# Altium footprint library Ceramic QFP (Square).PcbLib: 31 footprints (part 2 of 3)
Each footprint in its own frame and in the unit in brackets; x right, y up, seen from the top. Pads: shape width x height; smd on the part's side, far side on the other; paste and mask are expansions set on the pad; w line width, h text height; cw(c..) or ccw(c..) is an arc to the next point about the centre after c.
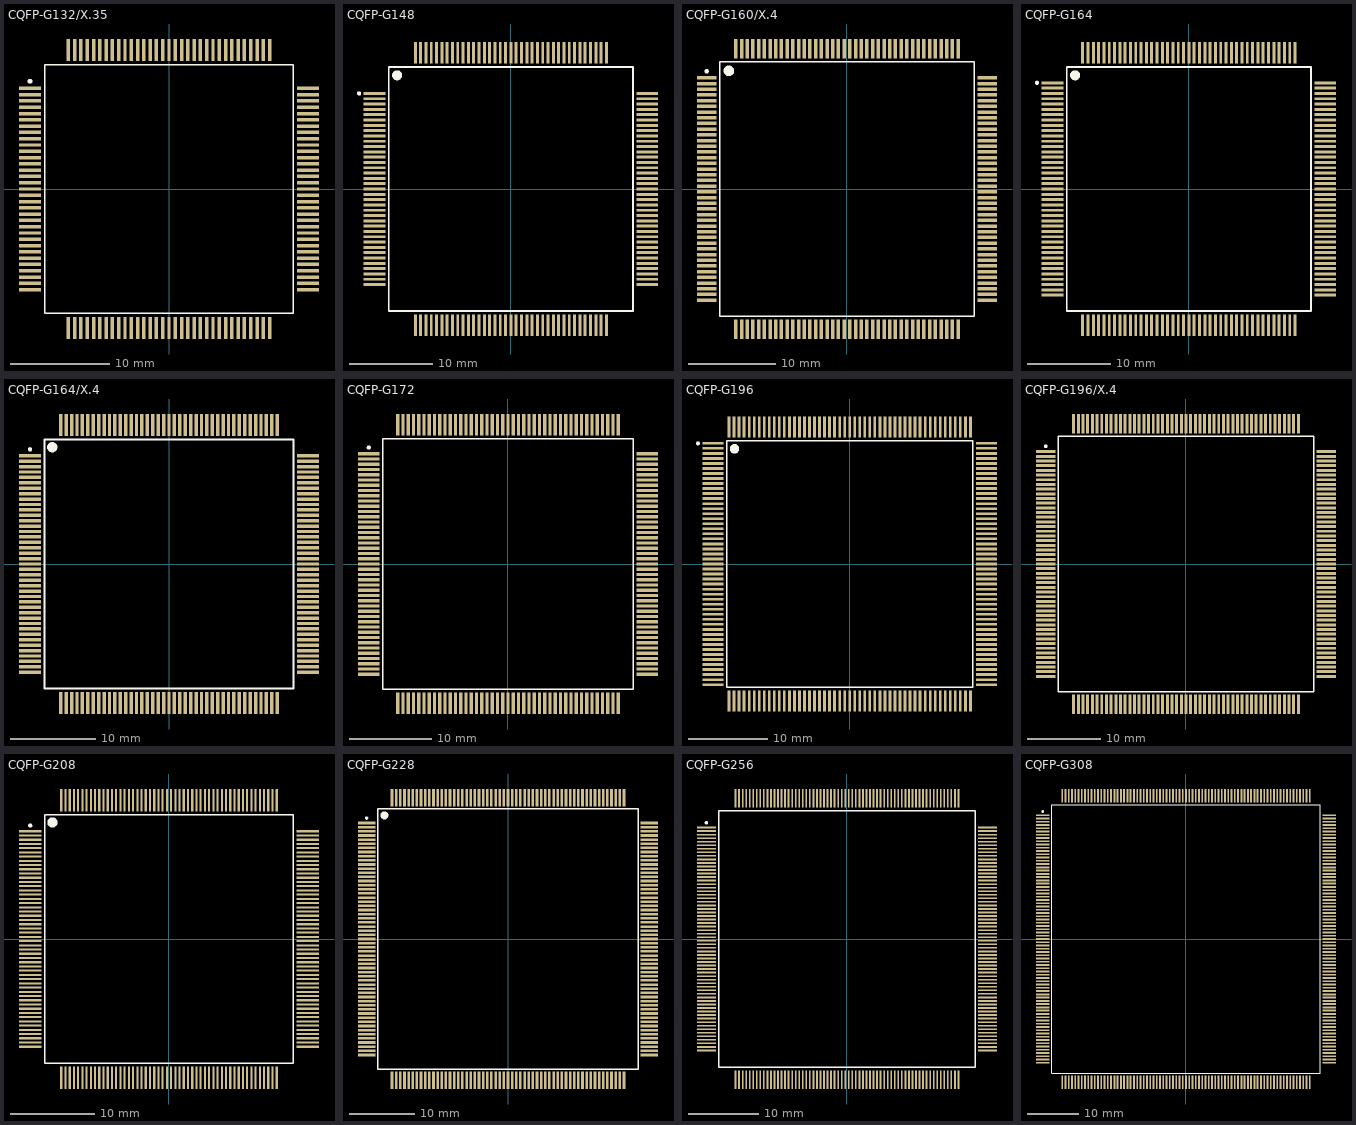
[diagram p1: the footprints below, top view; thin cyan lines are the x and y axes]

## CQFP-G132/X.35 [mm] "132-Pin Ceramic Quad Flat Pack (CQFP)"
height 3
pads (132):
  rect 2.2x0.35 smd: 1(-14.05,10.16) 2(-14.05,9.525) 3(-14.05,8.89) 4(-14.05,8.255) 5(-14.05,7.62) 6(-14.05,6.985) 7(-14.05,6.35) 8(-14.05,5.715) 9(-14.05,5.08) 10(-14.05,4.445) 11(-14.05,3.81) 12(-14.05,3.175) 13(-14.05,2.54) 14(-14.05,1.905) 15(-14.05,1.27) 16(-14.05,0.635) 17(-14.05,0) 18(-14.05,-0.635) 19(-14.05,-1.27) 20(-14.05,-1.905) 21(-14.05,-2.54) 22(-14.05,-3.175) 23(-14.05,-3.81) 24(-14.05,-4.445) 25(-14.05,-5.08) 26(-14.05,-5.715) 27(-14.05,-6.35) 28(-14.05,-6.985) 29(-14.05,-7.62) 30(-14.05,-8.255) 31(-14.05,-8.89) 32(-14.05,-9.525) 33(-14.05,-10.16) 67(14.05,-10.16) 68(14.05,-9.525) 69(14.05,-8.89) 70(14.05,-8.255) 71(14.05,-7.62) 72(14.05,-6.985) 73(14.05,-6.35) 74(14.05,-5.715) 75(14.05,-5.08) 76(14.05,-4.445) 77(14.05,-3.81) 78(14.05,-3.175) 79(14.05,-2.54) 80(14.05,-1.905) 81(14.05,-1.27) 82(14.05,-0.635) 83(14.05,0) 84(14.05,0.635) 85(14.05,1.27) 86(14.05,1.905) 87(14.05,2.54) 88(14.05,3.175) 89(14.05,3.81) 90(14.05,4.445) 91(14.05,5.08) 92(14.05,5.715) 93(14.05,6.35) 94(14.05,6.985) 95(14.05,7.62) 96(14.05,8.255) 97(14.05,8.89) 98(14.05,9.525) 99(14.05,10.16)
  rect 0.35x2.2 smd: 34(-10.16,-14.05) 35(-9.525,-14.05) 36(-8.89,-14.05) 37(-8.255,-14.05) 38(-7.62,-14.05) 39(-6.985,-14.05) 40(-6.35,-14.05) 41(-5.715,-14.05) 42(-5.08,-14.05) 43(-4.445,-14.05) 44(-3.81,-14.05) 45(-3.175,-14.05) 46(-2.54,-14.05) 47(-1.905,-14.05) 48(-1.27,-14.05) 49(-0.635,-14.05) 50(0,-14.05) 51(0.635,-14.05) 52(1.27,-14.05) 53(1.905,-14.05) 54(2.54,-14.05) 55(3.175,-14.05) 56(3.81,-14.05) 57(4.445,-14.05) 58(5.08,-14.05) 59(5.715,-14.05) 60(6.35,-14.05) 61(6.985,-14.05) 62(7.62,-14.05) 63(8.255,-14.05) 64(8.89,-14.05) 65(9.525,-14.05) 66(10.16,-14.05) 100(10.16,14.05) 101(9.525,14.05) 102(8.89,14.05) 103(8.255,14.05) 104(7.62,14.05) 105(6.985,14.05) 106(6.35,14.05) 107(5.715,14.05) 108(5.08,14.05) 109(4.445,14.05) 110(3.81,14.05) 111(3.175,14.05) 112(2.54,14.05) 113(1.905,14.05) 114(1.27,14.05) 115(0.635,14.05) 116(0,14.05) 117(-0.635,14.05) 118(-1.27,14.05) 119(-1.905,14.05) 120(-2.54,14.05) 121(-3.175,14.05) 122(-3.81,14.05) 123(-4.445,14.05) 124(-5.08,14.05) 125(-5.715,14.05) 126(-6.35,14.05) 127(-6.985,14.05) 128(-7.62,14.05) 129(-8.255,14.05) 130(-8.89,14.05) 131(-9.525,14.05) 132(-10.16,14.05)
Top Overlay:
  circle w0.25: c-14.05,10.885 r0.125
  lines w0.2: -12.55,-12.55 -12.55,12.55 12.55,12.55 12.55,-12.55 -12.55,-12.55

## CQFP-G148 [mm] "QFP; 148 Leads; Body 28.5 x 28.5 mm; Pitch 0.635mm"
height 3.1
pads (148):
  rect 2.6x0.35 smd: 1(-16.3,11.43) 2(-16.3,10.795) 3(-16.3,10.16) 4(-16.3,9.525) 5(-16.3,8.89) 6(-16.3,8.255) 7(-16.3,7.62) 8(-16.3,6.985) 9(-16.3,6.35) 10(-16.3,5.715) 11(-16.3,5.08) 12(-16.3,4.445) 13(-16.3,3.81) 14(-16.3,3.175) 15(-16.3,2.54) 16(-16.3,1.905) 17(-16.3,1.27) 18(-16.3,0.635) 19(-16.3,0) 20(-16.3,-0.635) 21(-16.3,-1.27) 22(-16.3,-1.905) 23(-16.3,-2.54) 24(-16.3,-3.175) 25(-16.3,-3.81) 26(-16.3,-4.445) 27(-16.3,-5.08) 28(-16.3,-5.715) 29(-16.3,-6.35) 30(-16.3,-6.985) 31(-16.3,-7.62) 32(-16.3,-8.255) 33(-16.3,-8.89) 34(-16.3,-9.525) 35(-16.3,-10.16) 36(-16.3,-10.795) 37(-16.3,-11.43) 75(16.3,-11.43) 76(16.3,-10.795) 77(16.3,-10.16) 78(16.3,-9.525) 79(16.3,-8.89) 80(16.3,-8.255) 81(16.3,-7.62) 82(16.3,-6.985) 83(16.3,-6.35) 84(16.3,-5.715) 85(16.3,-5.08) 86(16.3,-4.445) 87(16.3,-3.81) 88(16.3,-3.175) 89(16.3,-2.54) 90(16.3,-1.905) 91(16.3,-1.27) 92(16.3,-0.635) 93(16.3,0) 94(16.3,0.635) 95(16.3,1.27) 96(16.3,1.905) 97(16.3,2.54) 98(16.3,3.175) 99(16.3,3.81) 100(16.3,4.445) 101(16.3,5.08) 102(16.3,5.715) 103(16.3,6.35) 104(16.3,6.985) 105(16.3,7.62) 106(16.3,8.255) 107(16.3,8.89) 108(16.3,9.525) 109(16.3,10.16) 110(16.3,10.795) 111(16.3,11.43)
  rect 0.35x2.6 smd: 38(-11.43,-16.3) 39(-10.795,-16.3) 40(-10.16,-16.3) 41(-9.525,-16.3) 42(-8.89,-16.3) 43(-8.255,-16.3) 44(-7.62,-16.3) 45(-6.985,-16.3) 46(-6.35,-16.3) 47(-5.715,-16.3) 48(-5.08,-16.3) 49(-4.445,-16.3) 50(-3.81,-16.3) 51(-3.175,-16.3) 52(-2.54,-16.3) 53(-1.905,-16.3) 54(-1.27,-16.3) 55(-0.635,-16.3) 56(0,-16.3) 57(0.635,-16.3) 58(1.27,-16.3) 59(1.905,-16.3) 60(2.54,-16.3) 61(3.175,-16.3) 62(3.81,-16.3) 63(4.445,-16.3) 64(5.08,-16.3) 65(5.715,-16.3) 66(6.35,-16.3) 67(6.985,-16.3) 68(7.62,-16.3) 69(8.255,-16.3) 70(8.89,-16.3) 71(9.525,-16.3) 72(10.16,-16.3) 73(10.795,-16.3) 74(11.43,-16.3) 112(11.43,16.3) 113(10.795,16.3) 114(10.16,16.3) 115(9.525,16.3) 116(8.89,16.3) 117(8.255,16.3) 118(7.62,16.3) 119(6.985,16.3) 120(6.35,16.3) 121(5.715,16.3) 122(5.08,16.3) 123(4.445,16.3) 124(3.81,16.3) 125(3.175,16.3) 126(2.54,16.3) 127(1.905,16.3) 128(1.27,16.3) 129(0.635,16.3) 130(0,16.3) 131(-0.635,16.3) 132(-1.27,16.3) 133(-1.905,16.3) 134(-2.54,16.3) 135(-3.175,16.3) 136(-3.81,16.3) 137(-4.445,16.3) 138(-5.08,16.3) 139(-5.715,16.3) 140(-6.35,16.3) 141(-6.985,16.3) 142(-7.62,16.3) 143(-8.255,16.3) 144(-8.89,16.3) 145(-9.525,16.3) 146(-10.16,16.3) 147(-10.795,16.3) 148(-11.43,16.3)
Top Overlay:
  circle w0.6: c-13.6,13.6 r0.3
  circle w0.25: c-18.16,11.43 r0.125
  lines w0.2: -14.6,-14.6 -14.6,14.6 14.6,14.6 14.6,-14.6 -14.6,-14.6

## CQFP-G160/X.4 [mm] "QFP, with Molded Carrier Ring; 160 Leads; Body 28 x 28 mm; Pitch 0.65mm"
height 3.4
pads (160):
  rect 2.2x0.4 smd: 1(-16,12.675) 2(-16,12.025) 3(-16,11.375) 4(-16,10.725) 5(-16,10.075) 6(-16,9.425) 7(-16,8.775) 8(-16,8.125) 9(-16,7.475) 10(-16,6.825) 11(-16,6.175) 12(-16,5.525) 13(-16,4.875) 14(-16,4.225) 15(-16,3.575) 16(-16,2.925) 17(-16,2.275) 18(-16,1.625) 19(-16,0.975) 20(-16,0.325) 21(-16,-0.325) 22(-16,-0.975) 23(-16,-1.625) 24(-16,-2.275) 25(-16,-2.925) 26(-16,-3.575) 27(-16,-4.225) 28(-16,-4.875) 29(-16,-5.525) 30(-16,-6.175) 31(-16,-6.825) 32(-16,-7.475) 33(-16,-8.125) 34(-16,-8.775) 35(-16,-9.425) 36(-16,-10.075) 37(-16,-10.725) 38(-16,-11.375) 39(-16,-12.025) 40(-16,-12.675) 81(16,-12.675) 82(16,-12.025) 83(16,-11.375) 84(16,-10.725) 85(16,-10.075) 86(16,-9.425) 87(16,-8.775) 88(16,-8.125) 89(16,-7.475) 90(16,-6.825) 91(16,-6.175) 92(16,-5.525) 93(16,-4.875) 94(16,-4.225) 95(16,-3.575) 96(16,-2.925) 97(16,-2.275) 98(16,-1.625) 99(16,-0.975) 100(16,-0.325) 101(16,0.325) 102(16,0.975) 103(16,1.625) 104(16,2.275) 105(16,2.925) 106(16,3.575) 107(16,4.225) 108(16,4.875) 109(16,5.525) 110(16,6.175) 111(16,6.825) 112(16,7.475) 113(16,8.125) 114(16,8.775) 115(16,9.425) 116(16,10.075) 117(16,10.725) 118(16,11.375) 119(16,12.025) 120(16,12.675)
  rect 0.4x2.2 smd: 41(-12.675,-16) 42(-12.025,-16) 43(-11.375,-16) 44(-10.725,-16) 45(-10.075,-16) 46(-9.425,-16) 47(-8.775,-16) 48(-8.125,-16) 49(-7.475,-16) 50(-6.825,-16) 51(-6.175,-16) 52(-5.525,-16) 53(-4.875,-16) 54(-4.225,-16) 55(-3.575,-16) 56(-2.925,-16) 57(-2.275,-16) 58(-1.625,-16) 59(-0.975,-16) 60(-0.325,-16) 61(0.325,-16) 62(0.975,-16) 63(1.625,-16) 64(2.275,-16) 65(2.925,-16) 66(3.575,-16) 67(4.225,-16) 68(4.875,-16) 69(5.525,-16) 70(6.175,-16) 71(6.825,-16) 72(7.475,-16) 73(8.125,-16) 74(8.775,-16) 75(9.425,-16) 76(10.075,-16) 77(10.725,-16) 78(11.375,-16) 79(12.025,-16) 80(12.675,-16) 121(12.675,16) 122(12.025,16) 123(11.375,16) 124(10.725,16) 125(10.075,16) 126(9.425,16) 127(8.775,16) 128(8.125,16) 129(7.475,16) 130(6.825,16) 131(6.175,16) 132(5.525,16) 133(4.875,16) 134(4.225,16) 135(3.575,16) 136(2.925,16) 137(2.275,16) 138(1.625,16) 139(0.975,16) 140(0.325,16) 141(-0.325,16) 142(-0.975,16) 143(-1.625,16) 144(-2.275,16) 145(-2.925,16) 146(-3.575,16) 147(-4.225,16) 148(-4.875,16) 149(-5.525,16) 150(-6.175,16) 151(-6.825,16) 152(-7.475,16) 153(-8.125,16) 154(-8.775,16) 155(-9.425,16) 156(-10.075,16) 157(-10.725,16) 158(-11.375,16) 159(-12.025,16) 160(-12.675,16)
Top Overlay:
  circle w0.6: c-13.47,13.47 r0.3
  circle w0.25: c-16,13.425 r0.125
  lines w0.2: -14.5,-14.5 -14.5,14.5 14.5,14.5 14.5,-14.5 -14.5,-14.5

## CQFP-G164 [mm] "QFP; 164 Leads; Body 29 x 29 mm; Pitch 0.635mm"
height 3.4
pads (164):
  rect 2.6x0.35 smd: 1(-16.3,12.7) 2(-16.3,12.065) 3(-16.3,11.43) 4(-16.3,10.795) 5(-16.3,10.16) 6(-16.3,9.525) 7(-16.3,8.89) 8(-16.3,8.255) 9(-16.3,7.62) 10(-16.3,6.985) 11(-16.3,6.35) 12(-16.3,5.715) 13(-16.3,5.08) 14(-16.3,4.445) 15(-16.3,3.81) 16(-16.3,3.175) 17(-16.3,2.54) 18(-16.3,1.905) 19(-16.3,1.27) 20(-16.3,0.635) 21(-16.3,0) 22(-16.3,-0.635) 23(-16.3,-1.27) 24(-16.3,-1.905) 25(-16.3,-2.54) 26(-16.3,-3.175) 27(-16.3,-3.81) 28(-16.3,-4.445) 29(-16.3,-5.08) 30(-16.3,-5.715) 31(-16.3,-6.35) 32(-16.3,-6.985) 33(-16.3,-7.62) 34(-16.3,-8.255) 35(-16.3,-8.89) 36(-16.3,-9.525) 37(-16.3,-10.16) 38(-16.3,-10.795) 39(-16.3,-11.43) 40(-16.3,-12.065) 41(-16.3,-12.7) 83(16.3,-12.7) 84(16.3,-12.065) 85(16.3,-11.43) 86(16.3,-10.795) 87(16.3,-10.16) 88(16.3,-9.525) 89(16.3,-8.89) 90(16.3,-8.255) 91(16.3,-7.62) 92(16.3,-6.985) 93(16.3,-6.35) 94(16.3,-5.715) 95(16.3,-5.08) 96(16.3,-4.445) 97(16.3,-3.81) 98(16.3,-3.175) 99(16.3,-2.54) 100(16.3,-1.905) 101(16.3,-1.27) 102(16.3,-0.635) 103(16.3,0) 104(16.3,0.635) 105(16.3,1.27) 106(16.3,1.905) 107(16.3,2.54) 108(16.3,3.175) 109(16.3,3.81) 110(16.3,4.445) 111(16.3,5.08) 112(16.3,5.715) 113(16.3,6.35) 114(16.3,6.985) 115(16.3,7.62) 116(16.3,8.255) 117(16.3,8.89) 118(16.3,9.525) 119(16.3,10.16) 120(16.3,10.795) 121(16.3,11.43) 122(16.3,12.065) 123(16.3,12.7)
  rect 0.35x2.6 smd: 42(-12.7,-16.3) 43(-12.065,-16.3) 44(-11.43,-16.3) 45(-10.795,-16.3) 46(-10.16,-16.3) 47(-9.525,-16.3) 48(-8.89,-16.3) 49(-8.255,-16.3) 50(-7.62,-16.3) 51(-6.985,-16.3) 52(-6.35,-16.3) 53(-5.715,-16.3) 54(-5.08,-16.3) 55(-4.445,-16.3) 56(-3.81,-16.3) 57(-3.175,-16.3) 58(-2.54,-16.3) 59(-1.905,-16.3) 60(-1.27,-16.3) 61(-0.635,-16.3) 62(0,-16.3) 63(0.635,-16.3) 64(1.27,-16.3) 65(1.905,-16.3) 66(2.54,-16.3) 67(3.175,-16.3) 68(3.81,-16.3) 69(4.445,-16.3) 70(5.08,-16.3) 71(5.715,-16.3) 72(6.35,-16.3) 73(6.985,-16.3) 74(7.62,-16.3) 75(8.255,-16.3) 76(8.89,-16.3) 77(9.525,-16.3) 78(10.16,-16.3) 79(10.795,-16.3) 80(11.43,-16.3) 81(12.065,-16.3) 82(12.7,-16.3) 124(12.7,16.3) 125(12.065,16.3) 126(11.43,16.3) 127(10.795,16.3) 128(10.16,16.3) 129(9.525,16.3) 130(8.89,16.3) 131(8.255,16.3) 132(7.62,16.3) 133(6.985,16.3) 134(6.35,16.3) 135(5.715,16.3) 136(5.08,16.3) 137(4.445,16.3) 138(3.81,16.3) 139(3.175,16.3) 140(2.54,16.3) 141(1.905,16.3) 142(1.27,16.3) 143(0.635,16.3) 144(0,16.3) 145(-0.635,16.3) 146(-1.27,16.3) 147(-1.905,16.3) 148(-2.54,16.3) 149(-3.175,16.3) 150(-3.81,16.3) 151(-4.445,16.3) 152(-5.08,16.3) 153(-5.715,16.3) 154(-6.35,16.3) 155(-6.985,16.3) 156(-7.62,16.3) 157(-8.255,16.3) 158(-8.89,16.3) 159(-9.525,16.3) 160(-10.16,16.3) 161(-10.795,16.3) 162(-11.43,16.3) 163(-12.065,16.3) 164(-12.7,16.3)
Top Overlay:
  circle w0.25: c-18.16,12.7 r0.125
  circle w0.6: c-13.6,13.6 r0.3
  lines w0.2: -14.6,-14.6 14.6,-14.6 14.6,14.6 -14.6,14.6 -14.6,-14.6

## CQFP-G164/X.4 [mm] "164-Pin Ceramic Brazed CQFP (CB164)"
height 3.4
pads (164):
  rect 2.6x0.4 smd: 1(-16.3,12.7) 2(-16.3,12.065) 3(-16.3,11.43) 4(-16.3,10.795) 5(-16.3,10.16) 6(-16.3,9.525) 7(-16.3,8.89) 8(-16.3,8.255) 9(-16.3,7.62) 10(-16.3,6.985) 11(-16.3,6.35) 12(-16.3,5.715) 13(-16.3,5.08) 14(-16.3,4.445) 15(-16.3,3.81) 16(-16.3,3.175) 17(-16.3,2.54) 18(-16.3,1.905) 19(-16.3,1.27) 20(-16.3,0.635) 21(-16.3,0) 22(-16.3,-0.635) 23(-16.3,-1.27) 24(-16.3,-1.905) 25(-16.3,-2.54) 26(-16.3,-3.175) 27(-16.3,-3.81) 28(-16.3,-4.445) 29(-16.3,-5.08) 30(-16.3,-5.715) 31(-16.3,-6.35) 32(-16.3,-6.985) 33(-16.3,-7.62) 34(-16.3,-8.255) 35(-16.3,-8.89) 36(-16.3,-9.525) 37(-16.3,-10.16) 38(-16.3,-10.795) 39(-16.3,-11.43) 40(-16.3,-12.065) 41(-16.3,-12.7) 83(16.3,-12.7) 84(16.3,-12.065) 85(16.3,-11.43) 86(16.3,-10.795) 87(16.3,-10.16) 88(16.3,-9.525) 89(16.3,-8.89) 90(16.3,-8.255) 91(16.3,-7.62) 92(16.3,-6.985) 93(16.3,-6.35) 94(16.3,-5.715) 95(16.3,-5.08) 96(16.3,-4.445) 97(16.3,-3.81) 98(16.3,-3.175) 99(16.3,-2.54) 100(16.3,-1.905) 101(16.3,-1.27) 102(16.3,-0.635) 103(16.3,0) 104(16.3,0.635) 105(16.3,1.27) 106(16.3,1.905) 107(16.3,2.54) 108(16.3,3.175) 109(16.3,3.81) 110(16.3,4.445) 111(16.3,5.08) 112(16.3,5.715) 113(16.3,6.35) 114(16.3,6.985) 115(16.3,7.62) 116(16.3,8.255) 117(16.3,8.89) 118(16.3,9.525) 119(16.3,10.16) 120(16.3,10.795) 121(16.3,11.43) 122(16.3,12.065) 123(16.3,12.7)
  rect 0.4x2.6 smd: 42(-12.7,-16.3) 43(-12.065,-16.3) 44(-11.43,-16.3) 45(-10.795,-16.3) 46(-10.16,-16.3) 47(-9.525,-16.3) 48(-8.89,-16.3) 49(-8.255,-16.3) 50(-7.62,-16.3) 51(-6.985,-16.3) 52(-6.35,-16.3) 53(-5.715,-16.3) 54(-5.08,-16.3) 55(-4.445,-16.3) 56(-3.81,-16.3) 57(-3.175,-16.3) 58(-2.54,-16.3) 59(-1.905,-16.3) 60(-1.27,-16.3) 61(-0.635,-16.3) 62(0,-16.3) 63(0.635,-16.3) 64(1.27,-16.3) 65(1.905,-16.3) 66(2.54,-16.3) 67(3.175,-16.3) 68(3.81,-16.3) 69(4.445,-16.3) 70(5.08,-16.3) 71(5.715,-16.3) 72(6.35,-16.3) 73(6.985,-16.3) 74(7.62,-16.3) 75(8.255,-16.3) 76(8.89,-16.3) 77(9.525,-16.3) 78(10.16,-16.3) 79(10.795,-16.3) 80(11.43,-16.3) 81(12.065,-16.3) 82(12.7,-16.3) 124(12.7,16.3) 125(12.065,16.3) 126(11.43,16.3) 127(10.795,16.3) 128(10.16,16.3) 129(9.525,16.3) 130(8.89,16.3) 131(8.255,16.3) 132(7.62,16.3) 133(6.985,16.3) 134(6.35,16.3) 135(5.715,16.3) 136(5.08,16.3) 137(4.445,16.3) 138(3.81,16.3) 139(3.175,16.3) 140(2.54,16.3) 141(1.905,16.3) 142(1.27,16.3) 143(0.635,16.3) 144(0,16.3) 145(-0.635,16.3) 146(-1.27,16.3) 147(-1.905,16.3) 148(-2.54,16.3) 149(-3.175,16.3) 150(-3.81,16.3) 151(-4.445,16.3) 152(-5.08,16.3) 153(-5.715,16.3) 154(-6.35,16.3) 155(-6.985,16.3) 156(-7.62,16.3) 157(-8.255,16.3) 158(-8.89,16.3) 159(-9.525,16.3) 160(-10.16,16.3) 161(-10.795,16.3) 162(-11.43,16.3) 163(-12.065,16.3) 164(-12.7,16.3)
Top Overlay:
  circle w0.25: c-16.3,13.45 r0.125
  circle w0.6: c-13.7,13.7 r0.3
  lines w0.2: -14.6,-14.6 14.6,-14.6 14.6,14.6 -14.6,14.6 -14.6,-14.6

## CQFP-G172 [mm] "172-Pin Ceramic Quad Flat Pack (CQFP)"
height 3
pads (172):
  rect 2.6x0.4 smd: 1(-16.85,13.335) 2(-16.85,12.7) 3(-16.85,12.065) 4(-16.85,11.43) 5(-16.85,10.795) 6(-16.85,10.16) 7(-16.85,9.525) 8(-16.85,8.89) 9(-16.85,8.255) 10(-16.85,7.62) 11(-16.85,6.985) 12(-16.85,6.35) 13(-16.85,5.715) 14(-16.85,5.08) 15(-16.85,4.445) 16(-16.85,3.81) 17(-16.85,3.175) 18(-16.85,2.54) 19(-16.85,1.905) 20(-16.85,1.27) 21(-16.85,0.635) 22(-16.85,0) 23(-16.85,-0.635) 24(-16.85,-1.27) 25(-16.85,-1.905) 26(-16.85,-2.54) 27(-16.85,-3.175) 28(-16.85,-3.81) 29(-16.85,-4.445) 30(-16.85,-5.08) 31(-16.85,-5.715) 32(-16.85,-6.35) 33(-16.85,-6.985) 34(-16.85,-7.62) 35(-16.85,-8.255) 36(-16.85,-8.89) 37(-16.85,-9.525) 38(-16.85,-10.16) 39(-16.85,-10.795) 40(-16.85,-11.43) 41(-16.85,-12.065) 42(-16.85,-12.7) 43(-16.85,-13.335) 87(16.85,-13.335) 88(16.85,-12.7) 89(16.85,-12.065) 90(16.85,-11.43) 91(16.85,-10.795) 92(16.85,-10.16) 93(16.85,-9.525) 94(16.85,-8.89) 95(16.85,-8.255) 96(16.85,-7.62) 97(16.85,-6.985) 98(16.85,-6.35) 99(16.85,-5.715) 100(16.85,-5.08) 101(16.85,-4.445) 102(16.85,-3.81) 103(16.85,-3.175) 104(16.85,-2.54) 105(16.85,-1.905) 106(16.85,-1.27) 107(16.85,-0.635) 108(16.85,0) 109(16.85,0.635) 110(16.85,1.27) 111(16.85,1.905) 112(16.85,2.54) 113(16.85,3.175) 114(16.85,3.81) 115(16.85,4.445) 116(16.85,5.08) 117(16.85,5.715) 118(16.85,6.35) 119(16.85,6.985) 120(16.85,7.62) 121(16.85,8.255) 122(16.85,8.89) 123(16.85,9.525) 124(16.85,10.16) 125(16.85,10.795) 126(16.85,11.43) 127(16.85,12.065) 128(16.85,12.7) 129(16.85,13.335)
  rect 0.4x2.6 smd: 44(-13.335,-16.85) 45(-12.7,-16.85) 46(-12.065,-16.85) 47(-11.43,-16.85) 48(-10.795,-16.85) 49(-10.16,-16.85) 50(-9.525,-16.85) 51(-8.89,-16.85) 52(-8.255,-16.85) 53(-7.62,-16.85) 54(-6.985,-16.85) 55(-6.35,-16.85) 56(-5.715,-16.85) 57(-5.08,-16.85) 58(-4.445,-16.85) 59(-3.81,-16.85) 60(-3.175,-16.85) 61(-2.54,-16.85) 62(-1.905,-16.85) 63(-1.27,-16.85) 64(-0.635,-16.85) 65(0,-16.85) 66(0.635,-16.85) 67(1.27,-16.85) 68(1.905,-16.85) 69(2.54,-16.85) 70(3.175,-16.85) 71(3.81,-16.85) 72(4.445,-16.85) 73(5.08,-16.85) 74(5.715,-16.85) 75(6.35,-16.85) 76(6.985,-16.85) 77(7.62,-16.85) 78(8.255,-16.85) 79(8.89,-16.85) 80(9.525,-16.85) 81(10.16,-16.85) 82(10.795,-16.85) 83(11.43,-16.85) 84(12.065,-16.85) 85(12.7,-16.85) 86(13.335,-16.85) 130(13.335,16.85) 131(12.7,16.85) 132(12.065,16.85) 133(11.43,16.85) 134(10.795,16.85) 135(10.16,16.85) 136(9.525,16.85) 137(8.89,16.85) 138(8.255,16.85) 139(7.62,16.85) 140(6.985,16.85) 141(6.35,16.85) 142(5.715,16.85) 143(5.08,16.85) 144(4.445,16.85) 145(3.81,16.85) 146(3.175,16.85) 147(2.54,16.85) 148(1.905,16.85) 149(1.27,16.85) 150(0.635,16.85) 151(0,16.85) 152(-0.635,16.85) 153(-1.27,16.85) 154(-1.905,16.85) 155(-2.54,16.85) 156(-3.175,16.85) 157(-3.81,16.85) 158(-4.445,16.85) 159(-5.08,16.85) 160(-5.715,16.85) 161(-6.35,16.85) 162(-6.985,16.85) 163(-7.62,16.85) 164(-8.255,16.85) 165(-8.89,16.85) 166(-9.525,16.85) 167(-10.16,16.85) 168(-10.795,16.85) 169(-11.43,16.85) 170(-12.065,16.85) 171(-12.7,16.85) 172(-13.335,16.85)
Top Overlay:
  circle w0.25: c-16.85,14.085 r0.125
  lines w0.2: -15.15,-15.15 -15.15,15.15 15.15,15.15 15.15,-15.15 -15.15,-15.15

## CQFP-G196 [mm] "QFP; 196 Leads; Body 34 x 34 mm; Pitch 0.635mm"
height 3.5
pads (196):
  rect 2.65x0.35 smd: 1(-17.275,15.24) 2(-17.275,14.605) 3(-17.275,13.97) 4(-17.275,13.335) 5(-17.275,12.7) 6(-17.275,12.065) 7(-17.275,11.43) 8(-17.275,10.795) 9(-17.275,10.16) 10(-17.275,9.525) 11(-17.275,8.89) 12(-17.275,8.255) 13(-17.275,7.62) 14(-17.275,6.985) 15(-17.275,6.35) 16(-17.275,5.715) 17(-17.275,5.08) 18(-17.275,4.445) 19(-17.275,3.81) 20(-17.275,3.175) 21(-17.275,2.54) 22(-17.275,1.905) 23(-17.275,1.27) 24(-17.275,0.635) 25(-17.275,0) 26(-17.275,-0.635) 27(-17.275,-1.27) 28(-17.275,-1.905) 29(-17.275,-2.54) 30(-17.275,-3.175) 31(-17.275,-3.81) 32(-17.275,-4.445) 33(-17.275,-5.08) 34(-17.275,-5.715) 35(-17.275,-6.35) 36(-17.275,-6.985) 37(-17.275,-7.62) 38(-17.275,-8.255) 39(-17.275,-8.89) 40(-17.275,-9.525) 41(-17.275,-10.16) 42(-17.275,-10.795) 43(-17.275,-11.43) 44(-17.275,-12.065) 45(-17.275,-12.7) 46(-17.275,-13.335) 47(-17.275,-13.97) 48(-17.275,-14.605) 49(-17.275,-15.24) 99(17.275,-15.24) 100(17.275,-14.605) 101(17.275,-13.97) 102(17.275,-13.335) 103(17.275,-12.7) 104(17.275,-12.065) 105(17.275,-11.43) 106(17.275,-10.795) 107(17.275,-10.16) 108(17.275,-9.525) 109(17.275,-8.89) 110(17.275,-8.255) 111(17.275,-7.62) 112(17.275,-6.985) 113(17.275,-6.35) 114(17.275,-5.715) 115(17.275,-5.08) 116(17.275,-4.445) 117(17.275,-3.81) 118(17.275,-3.175) 119(17.275,-2.54) 120(17.275,-1.905) 121(17.275,-1.27) 122(17.275,-0.635) 123(17.275,0) 124(17.275,0.635) 125(17.275,1.27) 126(17.275,1.905) 127(17.275,2.54) 128(17.275,3.175) 129(17.275,3.81) 130(17.275,4.445) 131(17.275,5.08) 132(17.275,5.715) 133(17.275,6.35) 134(17.275,6.985) 135(17.275,7.62) 136(17.275,8.255) 137(17.275,8.89) 138(17.275,9.525) 139(17.275,10.16) 140(17.275,10.795) 141(17.275,11.43) 142(17.275,12.065) 143(17.275,12.7) 144(17.275,13.335) 145(17.275,13.97) 146(17.275,14.605) 147(17.275,15.24)
  rect 0.35x2.65 smd: 50(-15.24,-17.275) 51(-14.605,-17.275) 52(-13.97,-17.275) 53(-13.335,-17.275) 54(-12.7,-17.275) 55(-12.065,-17.275) 56(-11.43,-17.275) 57(-10.795,-17.275) 58(-10.16,-17.275) 59(-9.525,-17.275) 60(-8.89,-17.275) 61(-8.255,-17.275) 62(-7.62,-17.275) 63(-6.985,-17.275) 64(-6.35,-17.275) 65(-5.715,-17.275) 66(-5.08,-17.275) 67(-4.445,-17.275) 68(-3.81,-17.275) 69(-3.175,-17.275) 70(-2.54,-17.275) 71(-1.905,-17.275) 72(-1.27,-17.275) 73(-0.635,-17.275) 74(0,-17.275) 75(0.635,-17.275) 76(1.27,-17.275) 77(1.905,-17.275) 78(2.54,-17.275) 79(3.175,-17.275) 80(3.81,-17.275) 81(4.445,-17.275) 82(5.08,-17.275) 83(5.715,-17.275) 84(6.35,-17.275) 85(6.985,-17.275) 86(7.62,-17.275) 87(8.255,-17.275) 88(8.89,-17.275) 89(9.525,-17.275) 90(10.16,-17.275) 91(10.795,-17.275) 92(11.43,-17.275) 93(12.065,-17.275) 94(12.7,-17.275) 95(13.335,-17.275) 96(13.97,-17.275) 97(14.605,-17.275) 98(15.24,-17.275) 148(15.24,17.275) 149(14.605,17.275) 150(13.97,17.275) 151(13.335,17.275) 152(12.7,17.275) 153(12.065,17.275) 154(11.43,17.275) 155(10.795,17.275) 156(10.16,17.275) 157(9.525,17.275) 158(8.89,17.275) 159(8.255,17.275) 160(7.62,17.275) 161(6.985,17.275) 162(6.35,17.275) 163(5.715,17.275) 164(5.08,17.275) 165(4.445,17.275) 166(3.81,17.275) 167(3.175,17.275) 168(2.54,17.275) 169(1.905,17.275) 170(1.27,17.275) 171(0.635,17.275) 172(0,17.275) 173(-0.635,17.275) 174(-1.27,17.275) 175(-1.905,17.275) 176(-2.54,17.275) 177(-3.175,17.275) 178(-3.81,17.275) 179(-4.445,17.275) 180(-5.08,17.275) 181(-5.715,17.275) 182(-6.35,17.275) 183(-6.985,17.275) 184(-7.62,17.275) 185(-8.255,17.275) 186(-8.89,17.275) 187(-9.525,17.275) 188(-10.16,17.275) 189(-10.795,17.275) 190(-11.43,17.275) 191(-12.065,17.275) 192(-12.7,17.275) 193(-13.335,17.275) 194(-13.97,17.275) 195(-14.605,17.275) 196(-15.24,17.275)
Top Overlay:
  circle w0.25: c-19.16,15.24 r0.125
  circle w0.6: c-14.55,14.55 r0.3
  lines w0.2: -15.55,-15.55 15.55,-15.55 15.55,15.55 -15.55,15.55 -15.55,-15.55

## CQFP-G196/X.4 [mm] "196-Pin Ceramic Quad Flat Pack (CQFP)"
height 2.7
pads (196):
  rect 2.65x0.4 smd: 1(-19.025,15.24) 2(-19.025,14.605) 3(-19.025,13.97) 4(-19.025,13.335) 5(-19.025,12.7) 6(-19.025,12.065) 7(-19.025,11.43) 8(-19.025,10.795) 9(-19.025,10.16) 10(-19.025,9.525) 11(-19.025,8.89) 12(-19.025,8.255) 13(-19.025,7.62) 14(-19.025,6.985) 15(-19.025,6.35) 16(-19.025,5.715) 17(-19.025,5.08) 18(-19.025,4.445) 19(-19.025,3.81) 20(-19.025,3.175) 21(-19.025,2.54) 22(-19.025,1.905) 23(-19.025,1.27) 24(-19.025,0.635) 25(-19.025,0) 26(-19.025,-0.635) 27(-19.025,-1.27) 28(-19.025,-1.905) 29(-19.025,-2.54) 30(-19.025,-3.175) 31(-19.025,-3.81) 32(-19.025,-4.445) 33(-19.025,-5.08) 34(-19.025,-5.715) 35(-19.025,-6.35) 36(-19.025,-6.985) 37(-19.025,-7.62) 38(-19.025,-8.255) 39(-19.025,-8.89) 40(-19.025,-9.525) 41(-19.025,-10.16) 42(-19.025,-10.795) 43(-19.025,-11.43) 44(-19.025,-12.065) 45(-19.025,-12.7) 46(-19.025,-13.335) 47(-19.025,-13.97) 48(-19.025,-14.605) 49(-19.025,-15.24) 99(19.025,-15.24) 100(19.025,-14.605) 101(19.025,-13.97) 102(19.025,-13.335) 103(19.025,-12.7) 104(19.025,-12.065) 105(19.025,-11.43) 106(19.025,-10.795) 107(19.025,-10.16) 108(19.025,-9.525) 109(19.025,-8.89) 110(19.025,-8.255) 111(19.025,-7.62) 112(19.025,-6.985) 113(19.025,-6.35) 114(19.025,-5.715) 115(19.025,-5.08) 116(19.025,-4.445) 117(19.025,-3.81) 118(19.025,-3.175) 119(19.025,-2.54) 120(19.025,-1.905) 121(19.025,-1.27) 122(19.025,-0.635) 123(19.025,0) 124(19.025,0.635) 125(19.025,1.27) 126(19.025,1.905) 127(19.025,2.54) 128(19.025,3.175) 129(19.025,3.81) 130(19.025,4.445) 131(19.025,5.08) 132(19.025,5.715) 133(19.025,6.35) 134(19.025,6.985) 135(19.025,7.62) 136(19.025,8.255) 137(19.025,8.89) 138(19.025,9.525) 139(19.025,10.16) 140(19.025,10.795) 141(19.025,11.43) 142(19.025,12.065) 143(19.025,12.7) 144(19.025,13.335) 145(19.025,13.97) 146(19.025,14.605) 147(19.025,15.24)
  rect 0.4x2.65 smd: 50(-15.24,-19.025) 51(-14.605,-19.025) 52(-13.97,-19.025) 53(-13.335,-19.025) 54(-12.7,-19.025) 55(-12.065,-19.025) 56(-11.43,-19.025) 57(-10.795,-19.025) 58(-10.16,-19.025) 59(-9.525,-19.025) 60(-8.89,-19.025) 61(-8.255,-19.025) 62(-7.62,-19.025) 63(-6.985,-19.025) 64(-6.35,-19.025) 65(-5.715,-19.025) 66(-5.08,-19.025) 67(-4.445,-19.025) 68(-3.81,-19.025) 69(-3.175,-19.025) 70(-2.54,-19.025) 71(-1.905,-19.025) 72(-1.27,-19.025) 73(-0.635,-19.025) 74(0,-19.025) 75(0.635,-19.025) 76(1.27,-19.025) 77(1.905,-19.025) 78(2.54,-19.025) 79(3.175,-19.025) 80(3.81,-19.025) 81(4.445,-19.025) 82(5.08,-19.025) 83(5.715,-19.025) 84(6.35,-19.025) 85(6.985,-19.025) 86(7.62,-19.025) 87(8.255,-19.025) 88(8.89,-19.025) 89(9.525,-19.025) 90(10.16,-19.025) 91(10.795,-19.025) 92(11.43,-19.025) 93(12.065,-19.025) 94(12.7,-19.025) 95(13.335,-19.025) 96(13.97,-19.025) 97(14.605,-19.025) 98(15.24,-19.025) 148(15.24,19.025) 149(14.605,19.025) 150(13.97,19.025) 151(13.335,19.025) 152(12.7,19.025) 153(12.065,19.025) 154(11.43,19.025) 155(10.795,19.025) 156(10.16,19.025) 157(9.525,19.025) 158(8.89,19.025) 159(8.255,19.025) 160(7.62,19.025) 161(6.985,19.025) 162(6.35,19.025) 163(5.715,19.025) 164(5.08,19.025) 165(4.445,19.025) 166(3.81,19.025) 167(3.175,19.025) 168(2.54,19.025) 169(1.905,19.025) 170(1.27,19.025) 171(0.635,19.025) 172(0,19.025) 173(-0.635,19.025) 174(-1.27,19.025) 175(-1.905,19.025) 176(-2.54,19.025) 177(-3.175,19.025) 178(-3.81,19.025) 179(-4.445,19.025) 180(-5.08,19.025) 181(-5.715,19.025) 182(-6.35,19.025) 183(-6.985,19.025) 184(-7.62,19.025) 185(-8.255,19.025) 186(-8.89,19.025) 187(-9.525,19.025) 188(-10.16,19.025) 189(-10.795,19.025) 190(-11.43,19.025) 191(-12.065,19.025) 192(-12.7,19.025) 193(-13.335,19.025) 194(-13.97,19.025) 195(-14.605,19.025) 196(-15.24,19.025)
Top Overlay:
  circle w0.25: c-19.025,15.965 r0.125
  lines w0.2: -17.3,-17.3 -17.3,17.3 17.3,17.3 17.3,-17.3 -17.3,-17.3

## CQFP-G208 [mm] "208-Pin Ceramic Quad Flat Pack (CQFP)"
height 3.3
pads (208):
  rect 2.65x0.25 smd: 1(-16.425,12.75) 2(-16.425,12.25) 3(-16.425,11.75) 4(-16.425,11.25) 5(-16.425,10.75) 6(-16.425,10.25) 7(-16.425,9.75) 8(-16.425,9.25) 9(-16.425,8.75) 10(-16.425,8.25) 11(-16.425,7.75) 12(-16.425,7.25) 13(-16.425,6.75) 14(-16.425,6.25) 15(-16.425,5.75) 16(-16.425,5.25) 17(-16.425,4.75) 18(-16.425,4.25) 19(-16.425,3.75) 20(-16.425,3.25) 21(-16.425,2.75) 22(-16.425,2.25) 23(-16.425,1.75) 24(-16.425,1.25) 25(-16.425,0.75) 26(-16.425,0.25) 27(-16.425,-0.25) 28(-16.425,-0.75) 29(-16.425,-1.25) 30(-16.425,-1.75) 31(-16.425,-2.25) 32(-16.425,-2.75) 33(-16.425,-3.25) 34(-16.425,-3.75) 35(-16.425,-4.25) 36(-16.425,-4.75) 37(-16.425,-5.25) 38(-16.425,-5.75) 39(-16.425,-6.25) 40(-16.425,-6.75) 41(-16.425,-7.25) 42(-16.425,-7.75) 43(-16.425,-8.25) 44(-16.425,-8.75) 45(-16.425,-9.25) 46(-16.425,-9.75) 47(-16.425,-10.25) 48(-16.425,-10.75) 49(-16.425,-11.25) 50(-16.425,-11.75) 51(-16.425,-12.25) 52(-16.425,-12.75) 105(16.425,-12.75) 106(16.425,-12.25) 107(16.425,-11.75) 108(16.425,-11.25) 109(16.425,-10.75) 110(16.425,-10.25) 111(16.425,-9.75) 112(16.425,-9.25) 113(16.425,-8.75) 114(16.425,-8.25) 115(16.425,-7.75) 116(16.425,-7.25) 117(16.425,-6.75) 118(16.425,-6.25) 119(16.425,-5.75) 120(16.425,-5.25) 121(16.425,-4.75) 122(16.425,-4.25) 123(16.425,-3.75) 124(16.425,-3.25) 125(16.425,-2.75) 126(16.425,-2.25) 127(16.425,-1.75) 128(16.425,-1.25) 129(16.425,-0.75) 130(16.425,-0.25) 131(16.425,0.25) 132(16.425,0.75) 133(16.425,1.25) 134(16.425,1.75) 135(16.425,2.25) 136(16.425,2.75) 137(16.425,3.25) 138(16.425,3.75) 139(16.425,4.25) 140(16.425,4.75) 141(16.425,5.25) 142(16.425,5.75) 143(16.425,6.25) 144(16.425,6.75) 145(16.425,7.25) 146(16.425,7.75) 147(16.425,8.25) 148(16.425,8.75) 149(16.425,9.25) 150(16.425,9.75) 151(16.425,10.25) 152(16.425,10.75) 153(16.425,11.25) 154(16.425,11.75) 155(16.425,12.25) 156(16.425,12.75)
  rect 0.25x2.65 smd: 53(-12.75,-16.425) 54(-12.25,-16.425) 55(-11.75,-16.425) 56(-11.25,-16.425) 57(-10.75,-16.425) 58(-10.25,-16.425) 59(-9.75,-16.425) 60(-9.25,-16.425) 61(-8.75,-16.425) 62(-8.25,-16.425) 63(-7.75,-16.425) 64(-7.25,-16.425) 65(-6.75,-16.425) 66(-6.25,-16.425) 67(-5.75,-16.425) 68(-5.25,-16.425) 69(-4.75,-16.425) 70(-4.25,-16.425) 71(-3.75,-16.425) 72(-3.25,-16.425) 73(-2.75,-16.425) 74(-2.25,-16.425) 75(-1.75,-16.425) 76(-1.25,-16.425) 77(-0.75,-16.425) 78(-0.25,-16.425) 79(0.25,-16.425) 80(0.75,-16.425) 81(1.25,-16.425) 82(1.75,-16.425) 83(2.25,-16.425) 84(2.75,-16.425) 85(3.25,-16.425) 86(3.75,-16.425) 87(4.25,-16.425) 88(4.75,-16.425) 89(5.25,-16.425) 90(5.75,-16.425) 91(6.25,-16.425) 92(6.75,-16.425) 93(7.25,-16.425) 94(7.75,-16.425) 95(8.25,-16.425) 96(8.75,-16.425) 97(9.25,-16.425) 98(9.75,-16.425) 99(10.25,-16.425) 100(10.75,-16.425) 101(11.25,-16.425) 102(11.75,-16.425) 103(12.25,-16.425) 104(12.75,-16.425) 157(12.75,16.425) 158(12.25,16.425) 159(11.75,16.425) 160(11.25,16.425) 161(10.75,16.425) 162(10.25,16.425) 163(9.75,16.425) 164(9.25,16.425) 165(8.75,16.425) 166(8.25,16.425) 167(7.75,16.425) 168(7.25,16.425) 169(6.75,16.425) 170(6.25,16.425) 171(5.75,16.425) 172(5.25,16.425) 173(4.75,16.425) 174(4.25,16.425) 175(3.75,16.425) 176(3.25,16.425) 177(2.75,16.425) 178(2.25,16.425) 179(1.75,16.425) 180(1.25,16.425) 181(0.75,16.425) 182(0.25,16.425) 183(-0.25,16.425) 184(-0.75,16.425) 185(-1.25,16.425) 186(-1.75,16.425) 187(-2.25,16.425) 188(-2.75,16.425) 189(-3.25,16.425) 190(-3.75,16.425) 191(-4.25,16.425) 192(-4.75,16.425) 193(-5.25,16.425) 194(-5.75,16.425) 195(-6.25,16.425) 196(-6.75,16.425) 197(-7.25,16.425) 198(-7.75,16.425) 199(-8.25,16.425) 200(-8.75,16.425) 201(-9.25,16.425) 202(-9.75,16.425) 203(-10.25,16.425) 204(-10.75,16.425) 205(-11.25,16.425) 206(-11.75,16.425) 207(-12.25,16.425) 208(-12.75,16.425)
Top Overlay:
  circle w0.25: c-16.425,13.425 r0.125
  circle w0.6: c-13.8,13.8 r0.3
  lines w0.2: -14.7,-14.7 14.7,-14.7 14.7,14.7 -14.7,14.7 -14.7,-14.7

## CQFP-G228 [mm] "228-Pin Ceramic Brazed CQFP (CB228)"
height 3.4
pads (228):
  rect 2.65x0.4 smd: 1(-21.675,17.78) 2(-21.675,17.145) 3(-21.675,16.51) 4(-21.675,15.875) 5(-21.675,15.24) 6(-21.675,14.605) 7(-21.675,13.97) 8(-21.675,13.335) 9(-21.675,12.7) 10(-21.675,12.065) 11(-21.675,11.43) 12(-21.675,10.795) 13(-21.675,10.16) 14(-21.675,9.525) 15(-21.675,8.89) 16(-21.675,8.255) 17(-21.675,7.62) 18(-21.675,6.985) 19(-21.675,6.35) 20(-21.675,5.715) 21(-21.675,5.08) 22(-21.675,4.445) 23(-21.675,3.81) 24(-21.675,3.175) 25(-21.675,2.54) 26(-21.675,1.905) 27(-21.675,1.27) 28(-21.675,0.635) 29(-21.675,0) 30(-21.675,-0.635) 31(-21.675,-1.27) 32(-21.675,-1.905) 33(-21.675,-2.54) 34(-21.675,-3.175) 35(-21.675,-3.81) 36(-21.675,-4.445) 37(-21.675,-5.08) 38(-21.675,-5.715) 39(-21.675,-6.35) 40(-21.675,-6.985) 41(-21.675,-7.62) 42(-21.675,-8.255) 43(-21.675,-8.89) 44(-21.675,-9.525) 45(-21.675,-10.16) 46(-21.675,-10.795) 47(-21.675,-11.43) 48(-21.675,-12.065) 49(-21.675,-12.7) 50(-21.675,-13.335) 51(-21.675,-13.97) 52(-21.675,-14.605) 53(-21.675,-15.24) 54(-21.675,-15.875) 55(-21.675,-16.51) 56(-21.675,-17.145) 57(-21.675,-17.78) 115(21.675,-17.78) 116(21.675,-17.145) 117(21.675,-16.51) 118(21.675,-15.875) 119(21.675,-15.24) 120(21.675,-14.605) 121(21.675,-13.97) 122(21.675,-13.335) 123(21.675,-12.7) 124(21.675,-12.065) 125(21.675,-11.43) 126(21.675,-10.795) 127(21.675,-10.16) 128(21.675,-9.525) 129(21.675,-8.89) 130(21.675,-8.255) 131(21.675,-7.62) 132(21.675,-6.985) 133(21.675,-6.35) 134(21.675,-5.715) 135(21.675,-5.08) 136(21.675,-4.445) 137(21.675,-3.81) 138(21.675,-3.175) 139(21.675,-2.54) 140(21.675,-1.905) 141(21.675,-1.27) 142(21.675,-0.635) 143(21.675,0) 144(21.675,0.635) 145(21.675,1.27) 146(21.675,1.905) 147(21.675,2.54) 148(21.675,3.175) 149(21.675,3.81) 150(21.675,4.445) 151(21.675,5.08) 152(21.675,5.715) 153(21.675,6.35) 154(21.675,6.985) 155(21.675,7.62) 156(21.675,8.255) 157(21.675,8.89) 158(21.675,9.525) 159(21.675,10.16) 160(21.675,10.795) 161(21.675,11.43) 162(21.675,12.065) 163(21.675,12.7) 164(21.675,13.335) 165(21.675,13.97) 166(21.675,14.605) 167(21.675,15.24) 168(21.675,15.875) 169(21.675,16.51) 170(21.675,17.145) 171(21.675,17.78)
  rect 0.4x2.65 smd: 58(-17.78,-21.675) 59(-17.145,-21.675) 60(-16.51,-21.675) 61(-15.875,-21.675) 62(-15.24,-21.675) 63(-14.605,-21.675) 64(-13.97,-21.675) 65(-13.335,-21.675) 66(-12.7,-21.675) 67(-12.065,-21.675) 68(-11.43,-21.675) 69(-10.795,-21.675) 70(-10.16,-21.675) 71(-9.525,-21.675) 72(-8.89,-21.675) 73(-8.255,-21.675) 74(-7.62,-21.675) 75(-6.985,-21.675) 76(-6.35,-21.675) 77(-5.715,-21.675) 78(-5.08,-21.675) 79(-4.445,-21.675) 80(-3.81,-21.675) 81(-3.175,-21.675) 82(-2.54,-21.675) 83(-1.905,-21.675) 84(-1.27,-21.675) 85(-0.635,-21.675) 86(0,-21.675) 87(0.635,-21.675) 88(1.27,-21.675) 89(1.905,-21.675) 90(2.54,-21.675) 91(3.175,-21.675) 92(3.81,-21.675) 93(4.445,-21.675) 94(5.08,-21.675) 95(5.715,-21.675) 96(6.35,-21.675) 97(6.985,-21.675) 98(7.62,-21.675) 99(8.255,-21.675) 100(8.89,-21.675) 101(9.525,-21.675) 102(10.16,-21.675) 103(10.795,-21.675) 104(11.43,-21.675) 105(12.065,-21.675) 106(12.7,-21.675) 107(13.335,-21.675) 108(13.97,-21.675) 109(14.605,-21.675) 110(15.24,-21.675) 111(15.875,-21.675) 112(16.51,-21.675) 113(17.145,-21.675) 114(17.78,-21.675) 172(17.78,21.675) 173(17.145,21.675) 174(16.51,21.675) 175(15.875,21.675) 176(15.24,21.675) 177(14.605,21.675) 178(13.97,21.675) 179(13.335,21.675) 180(12.7,21.675) 181(12.065,21.675) 182(11.43,21.675) 183(10.795,21.675) 184(10.16,21.675) 185(9.525,21.675) 186(8.89,21.675) 187(8.255,21.675) 188(7.62,21.675) 189(6.985,21.675) 190(6.35,21.675) 191(5.715,21.675) 192(5.08,21.675) 193(4.445,21.675) 194(3.81,21.675) 195(3.175,21.675) 196(2.54,21.675) 197(1.905,21.675) 198(1.27,21.675) 199(0.635,21.675) 200(0,21.675) 201(-0.635,21.675) 202(-1.27,21.675) 203(-1.905,21.675) 204(-2.54,21.675) 205(-3.175,21.675) 206(-3.81,21.675) 207(-4.445,21.675) 208(-5.08,21.675) 209(-5.715,21.675) 210(-6.35,21.675) 211(-6.985,21.675) 212(-7.62,21.675) 213(-8.255,21.675) 214(-8.89,21.675) 215(-9.525,21.675) 216(-10.16,21.675) 217(-10.795,21.675) 218(-11.43,21.675) 219(-12.065,21.675) 220(-12.7,21.675) 221(-13.335,21.675) 222(-13.97,21.675) 223(-14.605,21.675) 224(-15.24,21.675) 225(-15.875,21.675) 226(-16.51,21.675) 227(-17.145,21.675) 228(-17.78,21.675)
Top Overlay:
  circle w0.6: c-18.95,18.95 r0.3
  circle w0.25: c-21.675,18.53 r0.125
  lines w0.2: -19.95,-19.95 -19.95,19.95 19.95,19.95 19.95,-19.95 -19.95,-19.95

## CQFP-G256 [mm] "256-Pin Ceramic Quad Flat Pack (CQFP)"
height 3.3
pads (256):
  rect 2.65x0.25 smd: 1(-19.875,15.75) 2(-19.875,15.25) 3(-19.875,14.75) 4(-19.875,14.25) 5(-19.875,13.75) 6(-19.875,13.25) 7(-19.875,12.75) 8(-19.875,12.25) 9(-19.875,11.75) 10(-19.875,11.25) 11(-19.875,10.75) 12(-19.875,10.25) 13(-19.875,9.75) 14(-19.875,9.25) 15(-19.875,8.75) 16(-19.875,8.25) 17(-19.875,7.75) 18(-19.875,7.25) 19(-19.875,6.75) 20(-19.875,6.25) 21(-19.875,5.75) 22(-19.875,5.25) 23(-19.875,4.75) 24(-19.875,4.25) 25(-19.875,3.75) 26(-19.875,3.25) 27(-19.875,2.75) 28(-19.875,2.25) 29(-19.875,1.75) 30(-19.875,1.25) 31(-19.875,0.75) 32(-19.875,0.25) 33(-19.875,-0.25) 34(-19.875,-0.75) 35(-19.875,-1.25) 36(-19.875,-1.75) 37(-19.875,-2.25) 38(-19.875,-2.75) 39(-19.875,-3.25) 40(-19.875,-3.75) 41(-19.875,-4.25) 42(-19.875,-4.75) 43(-19.875,-5.25) 44(-19.875,-5.75) 45(-19.875,-6.25) 46(-19.875,-6.75) 47(-19.875,-7.25) 48(-19.875,-7.75) 49(-19.875,-8.25) 50(-19.875,-8.75) 51(-19.875,-9.25) 52(-19.875,-9.75) 53(-19.875,-10.25) 54(-19.875,-10.75) 55(-19.875,-11.25) 56(-19.875,-11.75) 57(-19.875,-12.25) 58(-19.875,-12.75) 59(-19.875,-13.25) 60(-19.875,-13.75) 61(-19.875,-14.25) 62(-19.875,-14.75) 63(-19.875,-15.25) 64(-19.875,-15.75) 129(19.875,-15.75) 130(19.875,-15.25) 131(19.875,-14.75) 132(19.875,-14.25) 133(19.875,-13.75) 134(19.875,-13.25) 135(19.875,-12.75) 136(19.875,-12.25) 137(19.875,-11.75) 138(19.875,-11.25) 139(19.875,-10.75) 140(19.875,-10.25) 141(19.875,-9.75) 142(19.875,-9.25) 143(19.875,-8.75) 144(19.875,-8.25) 145(19.875,-7.75) 146(19.875,-7.25) 147(19.875,-6.75) 148(19.875,-6.25) 149(19.875,-5.75) 150(19.875,-5.25) 151(19.875,-4.75) 152(19.875,-4.25) 153(19.875,-3.75) 154(19.875,-3.25) 155(19.875,-2.75) 156(19.875,-2.25) 157(19.875,-1.75) 158(19.875,-1.25) 159(19.875,-0.75) 160(19.875,-0.25) 161(19.875,0.25) 162(19.875,0.75) 163(19.875,1.25) 164(19.875,1.75) 165(19.875,2.25) 166(19.875,2.75) 167(19.875,3.25) 168(19.875,3.75) 169(19.875,4.25) 170(19.875,4.75) 171(19.875,5.25) 172(19.875,5.75) 173(19.875,6.25) 174(19.875,6.75) 175(19.875,7.25) 176(19.875,7.75) 177(19.875,8.25) 178(19.875,8.75) 179(19.875,9.25) 180(19.875,9.75) 181(19.875,10.25) 182(19.875,10.75) 183(19.875,11.25) 184(19.875,11.75) 185(19.875,12.25) 186(19.875,12.75) 187(19.875,13.25) 188(19.875,13.75) 189(19.875,14.25) 190(19.875,14.75) 191(19.875,15.25) 192(19.875,15.75)
  rect 0.25x2.65 smd: 65(-15.75,-19.875) 66(-15.25,-19.875) 67(-14.75,-19.875) 68(-14.25,-19.875) 69(-13.75,-19.875) 70(-13.25,-19.875) 71(-12.75,-19.875) 72(-12.25,-19.875) 73(-11.75,-19.875) 74(-11.25,-19.875) 75(-10.75,-19.875) 76(-10.25,-19.875) 77(-9.75,-19.875) 78(-9.25,-19.875) 79(-8.75,-19.875) 80(-8.25,-19.875) 81(-7.75,-19.875) 82(-7.25,-19.875) 83(-6.75,-19.875) 84(-6.25,-19.875) 85(-5.75,-19.875) 86(-5.25,-19.875) 87(-4.75,-19.875) 88(-4.25,-19.875) 89(-3.75,-19.875) 90(-3.25,-19.875) 91(-2.75,-19.875) 92(-2.25,-19.875) 93(-1.75,-19.875) 94(-1.25,-19.875) 95(-0.75,-19.875) 96(-0.25,-19.875) 97(0.25,-19.875) 98(0.75,-19.875) 99(1.25,-19.875) 100(1.75,-19.875) 101(2.25,-19.875) 102(2.75,-19.875) 103(3.25,-19.875) 104(3.75,-19.875) 105(4.25,-19.875) 106(4.75,-19.875) 107(5.25,-19.875) 108(5.75,-19.875) 109(6.25,-19.875) 110(6.75,-19.875) 111(7.25,-19.875) 112(7.75,-19.875) 113(8.25,-19.875) 114(8.75,-19.875) 115(9.25,-19.875) 116(9.75,-19.875) 117(10.25,-19.875) 118(10.75,-19.875) 119(11.25,-19.875) 120(11.75,-19.875) 121(12.25,-19.875) 122(12.75,-19.875) 123(13.25,-19.875) 124(13.75,-19.875) 125(14.25,-19.875) 126(14.75,-19.875) 127(15.25,-19.875) 128(15.75,-19.875) 193(15.75,19.875) 194(15.25,19.875) 195(14.75,19.875) 196(14.25,19.875) 197(13.75,19.875) 198(13.25,19.875) 199(12.75,19.875) 200(12.25,19.875) 201(11.75,19.875) 202(11.25,19.875) 203(10.75,19.875) 204(10.25,19.875) 205(9.75,19.875) 206(9.25,19.875) 207(8.75,19.875) 208(8.25,19.875) 209(7.75,19.875) 210(7.25,19.875) 211(6.75,19.875) 212(6.25,19.875) 213(5.75,19.875) 214(5.25,19.875) 215(4.75,19.875) 216(4.25,19.875) 217(3.75,19.875) 218(3.25,19.875) 219(2.75,19.875) 220(2.25,19.875) 221(1.75,19.875) 222(1.25,19.875) 223(0.75,19.875) 224(0.25,19.875) 225(-0.25,19.875) 226(-0.75,19.875) 227(-1.25,19.875) 228(-1.75,19.875) 229(-2.25,19.875) 230(-2.75,19.875) 231(-3.25,19.875) 232(-3.75,19.875) 233(-4.25,19.875) 234(-4.75,19.875) 235(-5.25,19.875) 236(-5.75,19.875) 237(-6.25,19.875) 238(-6.75,19.875) 239(-7.25,19.875) 240(-7.75,19.875) 241(-8.25,19.875) 242(-8.75,19.875) 243(-9.25,19.875) 244(-9.75,19.875) 245(-10.25,19.875) 246(-10.75,19.875) 247(-11.25,19.875) 248(-11.75,19.875) 249(-12.25,19.875) 250(-12.75,19.875) 251(-13.25,19.875) 252(-13.75,19.875) 253(-14.25,19.875) 254(-14.75,19.875) 255(-15.25,19.875) 256(-15.75,19.875)
Top Overlay:
  circle w0.25: c-19.875,16.425 r0.125
  lines w0.2: -18.15,-18.15 18.15,-18.15 18.15,18.15 -18.15,18.15 -18.15,-18.15

## CQFP-G308 [mm] "QFP; 308 Leads; Body 52 x 52 mm; Pitch 0.635mm"
height 2.6
pads (308):
  rect 2.65x0.35 smd: 1(-27.925,24.13) 2(-27.925,23.495) 3(-27.925,22.86) 4(-27.925,22.225) 5(-27.925,21.59) 6(-27.925,20.955) 7(-27.925,20.32) 8(-27.925,19.685) 9(-27.925,19.05) 10(-27.925,18.415) 11(-27.925,17.78) 12(-27.925,17.145) 13(-27.925,16.51) 14(-27.925,15.875) 15(-27.925,15.24) 16(-27.925,14.605) 17(-27.925,13.97) 18(-27.925,13.335) 19(-27.925,12.7) 20(-27.925,12.065) 21(-27.925,11.43) 22(-27.925,10.795) 23(-27.925,10.16) 24(-27.925,9.525) 25(-27.925,8.89) 26(-27.925,8.255) 27(-27.925,7.62) 28(-27.925,6.985) 29(-27.925,6.35) 30(-27.925,5.715) 31(-27.925,5.08) 32(-27.925,4.445) 33(-27.925,3.81) 34(-27.925,3.175) 35(-27.925,2.54) 36(-27.925,1.905) 37(-27.925,1.27) 38(-27.925,0.635) 39(-27.925,0) 40(-27.925,-0.635) 41(-27.925,-1.27) 42(-27.925,-1.905) 43(-27.925,-2.54) 44(-27.925,-3.175) 45(-27.925,-3.81) 46(-27.925,-4.445) 47(-27.925,-5.08) 48(-27.925,-5.715) 49(-27.925,-6.35) 50(-27.925,-6.985) 51(-27.925,-7.62) 52(-27.925,-8.255) 53(-27.925,-8.89) 54(-27.925,-9.525) 55(-27.925,-10.16) 56(-27.925,-10.795) 57(-27.925,-11.43) 58(-27.925,-12.065) 59(-27.925,-12.7) 60(-27.925,-13.335) 61(-27.925,-13.97) 62(-27.925,-14.605) 63(-27.925,-15.24) 64(-27.925,-15.875) 65(-27.925,-16.51) 66(-27.925,-17.145) 67(-27.925,-17.78) 68(-27.925,-18.415) 69(-27.925,-19.05) 70(-27.925,-19.685) 71(-27.925,-20.32) 72(-27.925,-20.955) 73(-27.925,-21.59) 74(-27.925,-22.225) 75(-27.925,-22.86) 76(-27.925,-23.495) 77(-27.925,-24.13) 155(27.925,-24.13) 156(27.925,-23.495) 157(27.925,-22.86) 158(27.925,-22.225) 159(27.925,-21.59) 160(27.925,-20.955) 161(27.925,-20.32) 162(27.925,-19.685) 163(27.925,-19.05) 164(27.925,-18.415) 165(27.925,-17.78) 166(27.925,-17.145) 167(27.925,-16.51) 168(27.925,-15.875) 169(27.925,-15.24) 170(27.925,-14.605) 171(27.925,-13.97) 172(27.925,-13.335) 173(27.925,-12.7) 174(27.925,-12.065) 175(27.925,-11.43) 176(27.925,-10.795) 177(27.925,-10.16) 178(27.925,-9.525) 179(27.925,-8.89) 180(27.925,-8.255) 181(27.925,-7.62) 182(27.925,-6.985) 183(27.925,-6.35) 184(27.925,-5.715) 185(27.925,-5.08) 186(27.925,-4.445) 187(27.925,-3.81) 188(27.925,-3.175) 189(27.925,-2.54) 190(27.925,-1.905) 191(27.925,-1.27) 192(27.925,-0.635) 193(27.925,0) 194(27.925,0.635) 195(27.925,1.27) 196(27.925,1.905) 197(27.925,2.54) 198(27.925,3.175) 199(27.925,3.81) 200(27.925,4.445) 201(27.925,5.08) 202(27.925,5.715) 203(27.925,6.35) 204(27.925,6.985) 205(27.925,7.62) 206(27.925,8.255) 207(27.925,8.89) 208(27.925,9.525) 209(27.925,10.16) 210(27.925,10.795) 211(27.925,11.43) 212(27.925,12.065) 213(27.925,12.7) 214(27.925,13.335) 215(27.925,13.97) 216(27.925,14.605) 217(27.925,15.24) 218(27.925,15.875) 219(27.925,16.51) 220(27.925,17.145) 221(27.925,17.78) 222(27.925,18.415) 223(27.925,19.05) 224(27.925,19.685) 225(27.925,20.32) 226(27.925,20.955) 227(27.925,21.59) 228(27.925,22.225) 229(27.925,22.86) 230(27.925,23.495) 231(27.925,24.13)
  rect 0.35x2.65 smd: 78(-24.13,-27.925) 79(-23.495,-27.925) 80(-22.86,-27.925) 81(-22.225,-27.925) 82(-21.59,-27.925) 83(-20.955,-27.925) 84(-20.32,-27.925) 85(-19.685,-27.925) 86(-19.05,-27.925) 87(-18.415,-27.925) 88(-17.78,-27.925) 89(-17.145,-27.925) 90(-16.51,-27.925) 91(-15.875,-27.925) 92(-15.24,-27.925) 93(-14.605,-27.925) 94(-13.97,-27.925) 95(-13.335,-27.925) 96(-12.7,-27.925) 97(-12.065,-27.925) 98(-11.43,-27.925) 99(-10.795,-27.925) 100(-10.16,-27.925) 101(-9.525,-27.925) 102(-8.89,-27.925) 103(-8.255,-27.925) 104(-7.62,-27.925) 105(-6.985,-27.925) 106(-6.35,-27.925) 107(-5.715,-27.925) 108(-5.08,-27.925) 109(-4.445,-27.925) 110(-3.81,-27.925) 111(-3.175,-27.925) 112(-2.54,-27.925) 113(-1.905,-27.925) 114(-1.27,-27.925) 115(-0.635,-27.925) 116(0,-27.925) 117(0.635,-27.925) 118(1.27,-27.925) 119(1.905,-27.925) 120(2.54,-27.925) 121(3.175,-27.925) 122(3.81,-27.925) 123(4.445,-27.925) 124(5.08,-27.925) 125(5.715,-27.925) 126(6.35,-27.925) 127(6.985,-27.925) 128(7.62,-27.925) 129(8.255,-27.925) 130(8.89,-27.925) 131(9.525,-27.925) 132(10.16,-27.925) 133(10.795,-27.925) 134(11.43,-27.925) 135(12.065,-27.925) 136(12.7,-27.925) 137(13.335,-27.925) 138(13.97,-27.925) 139(14.605,-27.925) 140(15.24,-27.925) 141(15.875,-27.925) 142(16.51,-27.925) 143(17.145,-27.925) 144(17.78,-27.925) 145(18.415,-27.925) 146(19.05,-27.925) 147(19.685,-27.925) 148(20.32,-27.925) 149(20.955,-27.925) 150(21.59,-27.925) 151(22.225,-27.925) 152(22.86,-27.925) 153(23.495,-27.925) 154(24.13,-27.925) 232(24.13,27.925) 233(23.495,27.925) 234(22.86,27.925) 235(22.225,27.925) 236(21.59,27.925) 237(20.955,27.925) 238(20.32,27.925) 239(19.685,27.925) 240(19.05,27.925) 241(18.415,27.925) 242(17.78,27.925) 243(17.145,27.925) 244(16.51,27.925) 245(15.875,27.925) 246(15.24,27.925) 247(14.605,27.925) 248(13.97,27.925) 249(13.335,27.925) 250(12.7,27.925) 251(12.065,27.925) 252(11.43,27.925) 253(10.795,27.925) 254(10.16,27.925) 255(9.525,27.925) 256(8.89,27.925) 257(8.255,27.925) 258(7.62,27.925) 259(6.985,27.925) 260(6.35,27.925) 261(5.715,27.925) 262(5.08,27.925) 263(4.445,27.925) 264(3.81,27.925) 265(3.175,27.925) 266(2.54,27.925) 267(1.905,27.925) 268(1.27,27.925) 269(0.635,27.925) 270(0,27.925) 271(-0.635,27.925) 272(-1.27,27.925) 273(-1.905,27.925) 274(-2.54,27.925) 275(-3.175,27.925) 276(-3.81,27.925) 277(-4.445,27.925) 278(-5.08,27.925) 279(-5.715,27.925) 280(-6.35,27.925) 281(-6.985,27.925) 282(-7.62,27.925) 283(-8.255,27.925) 284(-8.89,27.925) 285(-9.525,27.925) 286(-10.16,27.925) 287(-10.795,27.925) 288(-11.43,27.925) 289(-12.065,27.925) 290(-12.7,27.925) 291(-13.335,27.925) 292(-13.97,27.925) 293(-14.605,27.925) 294(-15.24,27.925) 295(-15.875,27.925) 296(-16.51,27.925) 297(-17.145,27.925) 298(-17.78,27.925) 299(-18.415,27.925) 300(-19.05,27.925) 301(-19.685,27.925) 302(-20.32,27.925) 303(-20.955,27.925) 304(-21.59,27.925) 305(-22.225,27.925) 306(-22.86,27.925) 307(-23.495,27.925) 308(-24.13,27.925)
Top Overlay:
  circle w0.25: c-27.925,24.855 r0.125
  lines w0.2: -26.2,-26.2 26.2,-26.2 26.2,26.2 -26.2,26.2 -26.2,-26.2